# EAGLE library part M55-6101242R (library Harwin)
Board to Board & Mezzanine Connectors 12P 1.27 SMC Female R/A SMT Type Source: Datasheet <https://componentsearchengine.com/Datasheets/1/M55-6101242R.pdf>
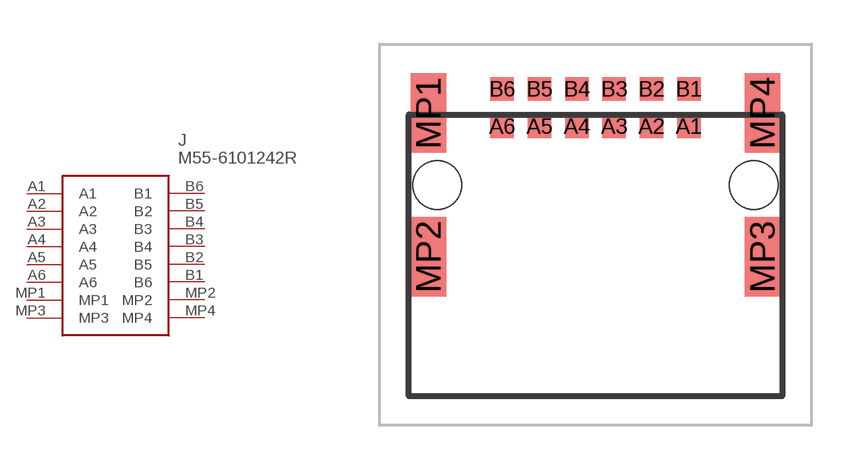
[diagram p1: symbol with the pads of M556101242R; footprint M556101242R]

Designator prefix J

## M55-6101242R (DESCRIPTION: Board to Board & Mezzanine Connectors 12P 1.27 SMC Female R/A SMT Type; HEIGHT: 3.68mm; MANUFACTURER_NAME: HARWIN; MANUFACTURER_PART_NUMBER: M55-6101242R; MOUSER_PART_NUMBER: 855-M55-6101242R; MOUSER_PRICE-STOCK: https://www.mouser.com/Search/Refine.aspx?Keyword=855-M55-6101242R)  [M556101242R]
A1  A1
A2  A2
A3  A3
A4  A4
A5  A5
A6  A6
B1  B6
B2  B5
B3  B4
B4  B3
B5  B2
B6  B1
MP1  MP1
MP2  MP2
MP3  MP3
MP4  MP4

## Footprint M556101242R (pad centres in mm)
M55-6101242R-2
smd 0.8 x 0.8: A1 3.175,3.7; A2 1.905,3.7; A3 0.635,3.7; A4 -0.635,3.7; A5 -1.905,3.7; A6 -3.175,3.7; B1 3.175,4.97; B2 1.905,4.97; B3 0.635,4.97; B4 -0.635,4.97; B5 -1.905,4.97; B6 -3.175,4.97
smd 1.2 x 2.7: MP1 -5.685,4.15; MP2 -5.685,-0.75; MP3 5.685,-0.75; MP4 5.685,4.15
hole 1.65 at -5.385,1.7
hole 1.65 at 5.385,1.7